# Altium footprint library love-flow-lamp.PcbLib: 10 footprints
Each footprint in its own frame and in the unit in brackets; x right, y up, seen from the top. Pads: shape width x height; smd on the part's side, far side on the other; paste and mask are expansions set on the pad; w line width, h text height; cw(c..) or ccw(c..) is an arc to the next point about the centre after c.
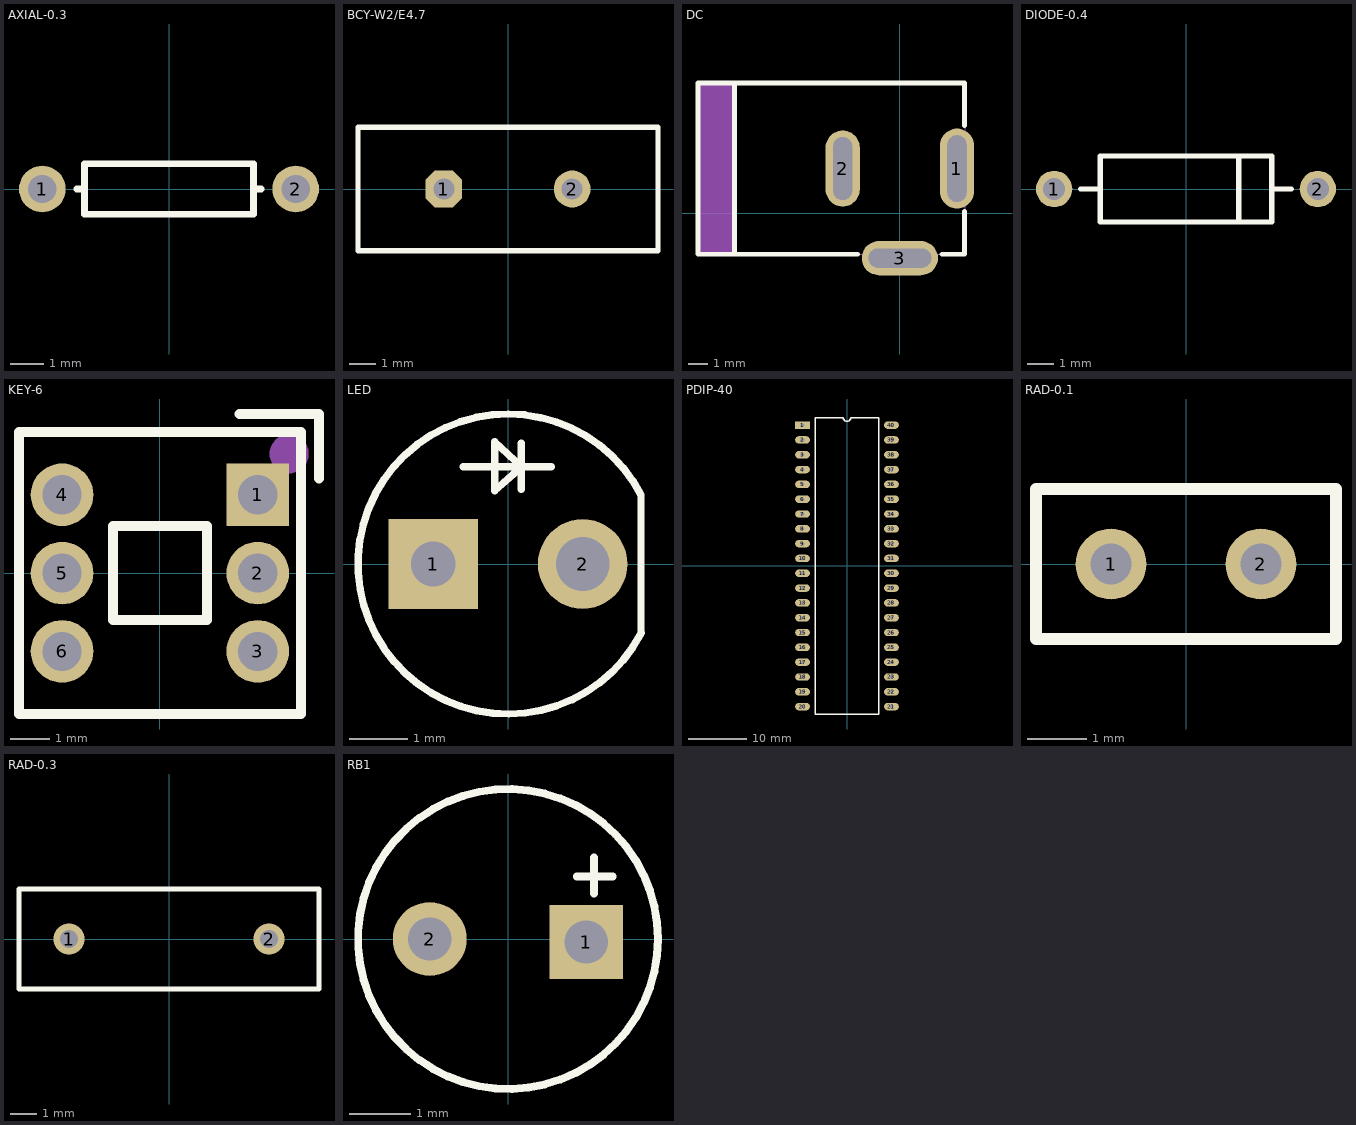
[diagram p0: the footprints below, top view; thin cyan lines are the x and y axes]

## AXIAL-0.3 [mm] "Axial Device, Thru-Hole; 2 Leads; 0.3 in Pin Spacing"
height 1.524
pads (2):
  round 1.4 hole 0.85: 1(-3.81,0) 2(3.81,0)
Top Overlay:
  lines w0.2: -2.769,0 -2.54,0 ; 2.769,0 2.54,0 ; 2.54,0 2.54,-0.762 -2.54,-0.762 -2.54,0.762 2.54,0.762 2.54,0

## BCY-W2/E4.7 [mm] "Quartz Crystal, Thru-Hole; 2 Leads; Body 11.35 x 4.65 x 13.46 mm (LxWxH max)"
height 13.46
pads (2):
  oct 1.4x1.4 hole 0.8: 1(-2.44,0)
  round 1.4 hole 0.8: 2(2.44,0)
Top Overlay:
  lines w0.2: -5.7,-2.35 -5.7,2.35 5.7,2.35 5.7,-2.35 -5.7,-2.35

## DC [mm] "DC header"
pads (3):
  oval 1.8x4.2 hole 1 slot 3.5 at 90 deg: 1(3,2.352)
  oval 1.8x4 hole 1 slot 3.3 at 90 deg: 2(-3,2.352)
  oval 4x1.8 hole 1 slot 3.3 at 0 deg: 3(0,-2.352)
Top Overlay:
  lines w0.254: -8.681,-2.148 -8.681,6.852 ; -2.213,-2.148 -10.6,-2.148 -10.6,6.852 3.4,6.852 3.4,4.61 ; 2.212,-2.148 3.4,-2.148 3.4,0.094
Mechanical 6:
  region: -10.6,6.802 -8.75,6.802 -8.75,-2.148 -10.65,-2.148
Mechanical 15:
  region: 3.463,6.852 3.463,6.876 3.428,6.91 3.379,6.91 3.344,6.876 3.343,6.852 3.344,6.827 3.379,6.793 3.428,6.793 3.463,6.827 3.463,6.852
  region: 3.15,3.602 3.15,1.102 2.85,1.102 2.85,3.602
  region: -3.15,1.102 -3.15,3.602 -2.85,3.602 -2.85,1.102
  region: -1.25,-2.202 1.25,-2.202 1.25,-2.502 -1.25,-2.502
  region: -1.25,-2.498 1.25,-2.498 1.25,-2.098 -1.25,-2.098
  lines w0.051: -10.6,-2.148 3.403,-2.148 3.4,6.852 -10.6,6.852 -10.6,-2.148

## DIODE-0.4 [mm]
height 2.54
pads (2):
  round 1.4 hole 0.85: 1(-5.08,0) 2(5.08,0)
Top Overlay:
  lines w0.2: -4.064,0 -3.302,0 ; 2.032,-1.27 2.032,1.27 ; 3.302,0 4.064,0 ; -3.302,-1.27 -3.302,1.27 3.302,1.27 3.302,-1.27 -3.302,-1.27

## KEY-6 [mm] "KEY-6"
pads (6):
  rect 1.6x1.6 hole 1: 1(2.5,2)
  round 1.6 hole 1: 2(2.5,0) 3(2.5,-2) 4(-2.5,2) 5(-2.5,0) 6(-2.5,-2)
Top Overlay:
  lines w0.254: 2.032,4.064 4.064,4.064 4.064,2.413 ; -3.6,-3.6 3.6,-3.6 3.6,3.6 -3.6,3.6 -3.6,-3.6 ; -1.2,-1.2 1.2,-1.2 1.2,1.2 -1.2,1.2 -1.2,-1.2
Mechanical 6:
  circle w0.5: c3.302,3.048 r0.25
Mechanical 15:
  region: 3.56,3.5 3.559,3.525 3.524,3.559 3.476,3.559 3.441,3.525 3.44,3.5 3.441,3.476 3.476,3.441 3.524,3.441 3.559,3.476 3.56,3.5
  region: -2.35,2.3 -2.35,1.7 -2.65,1.7 -2.65,2.3
  region: -2.35,0.3 -2.35,-0.3 -2.65,-0.3 -2.65,0.3
  region: -2.35,-1.7 -2.35,-2.3 -2.65,-2.3 -2.65,-1.7
  region: 2.65,-1.7 2.65,-2.3 2.35,-2.3 2.35,-1.7
  region: 2.65,0.3 2.65,-0.3 2.35,-0.3 2.35,0.3
  region: 2.65,2.3 2.65,1.7 2.35,1.7 2.35,2.3
  lines w0.051: -3.5,-3.5 -3.5,3.5 3.5,3.5 3.5,-3.5 -3.5,-3.5

## LED [mil] "LED lamp footprint"
pads (2):
  rect 60x60 hole 30 square: 1(-50,0)
  round 60 hole 35.98: 2(50,0)
Top Overlay:
  lines w5: -30,65 29,65 ; 9,50 9,81 ; -9,49 9,65 -9,82 -9,49 ; 89.06,-45.75 ccw(c89.62,-45.75) 89.22,-46.15 cw(c0,0) 89.06,46.46 89.06,-45.75

## PDIP-40 [mil] "PDIP-40 STC89C52RC footprint"
pads (40):
  rect 100x50 hole 25: 1(-300,950)
  oval 100x50 hole 25: 2(-300,850) 3(-300,750) 4(-300,650) 5(-300,550) 6(-300,450) 7(-300,350) 8(-300,250) 9(-300,150) 10(-300,50) 11(-300,-50) 12(-300,-150) 13(-300,-250) 14(-300,-350) 15(-300,-450) 16(-300,-550) 17(-300,-650) 18(-300,-750) 19(-300,-850) 20(-300,-950) 21(300,-950) 22(300,-850) 23(300,-750) 24(300,-650) 25(300,-550) 26(300,-450) 27(300,-350) 28(300,-250) 29(300,-150) 30(300,-50) 31(300,50) 32(300,150) 33(300,250) 34(300,350) 35(300,450) 36(300,550) 37(300,650) 38(300,750) 39(300,850) 40(300,950)
Top Overlay:
  lines w10: -215,-1000 215,-1000 215,1000 25,1000 cw(c0,1000) -25,1000 -215,1000 -215,-1000

## RAD-0.1 [mm]
pads (2):
  round 1.2 hole 0.7: 1(-1.27,0) 2(1.27,0)
Top Overlay:
  lines w0.2: -2.54,-1.27 2.54,-1.27 2.54,1.27 -2.54,1.27 -2.54,-1.27

## RAD-0.3 [mm]
height 6
pads (2):
  round 1.2 hole 0.7: 1(-3.81,0) 2(3.81,0)
Top Overlay:
  lines w0.2: -5.715,-1.905 5.715,-1.905 5.715,1.905 -5.715,1.905 -5.715,-1.905

## RB1 [mm]
pads (2):
  rect 1.2x1.2 hole 0.7: 1(1.27,-0.051)
  round 1.2 hole 0.7: 2(-1.27,0)
Top Overlay:
  circle w0.127: c0,0 r2.435
  lines w0.127: 1.118,1.016 1.702,1.016 ; 1.397,0.737 1.397,1.321